# EAGLE library part CFS-0300TA (library ELECTROMECH)
Dip Switch SPST 3 Position Surface Mount Slide (Standard) Actuator 100mA 6VDC
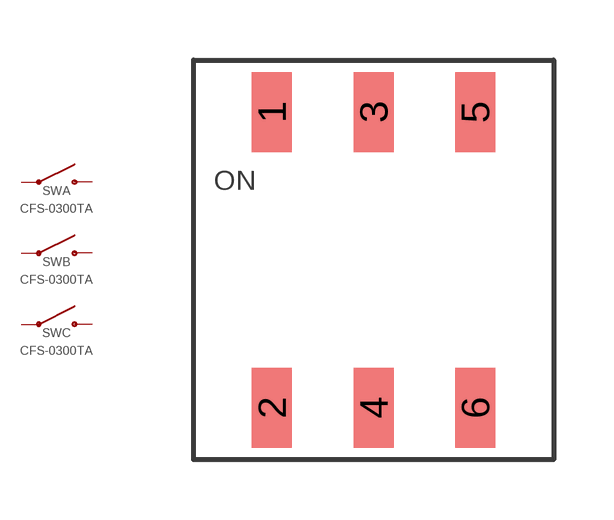
[diagram p4: symbol with the pads of CFS-0300TA; footprint CFS-0300TA]

Designator prefix SW; gates A=RELAY_SPST B=RELAY_SPST C=RELAY_SPST

## CFS-0300TA (DIGIKEY: 563-CFS-0300TACT-ND; HEIGHT: 3.9; PRICE_PER: 1.02; VALUE: CFS-0300TA)  [CFS-0300TA]
1  A:1
2  A:2
3  B:1
4  B:2
5  C:1
6  C:2

## Footprint CFS-0300TA (pad centres in mm)
smd 1 x 2: 1 -2.54,3.7; 2 -2.54,-3.7; 3 0,3.7; 4 0,-3.7; 5 2.54,3.7; 6 2.54,-3.7